# Altium schematic symbol library LMG3100R017.SchLib: 1 symbol
Pins are listed as number, name and electrical type; pins without a type are passive.

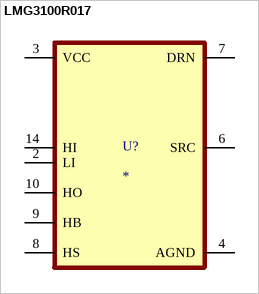
[diagram p0: symbol LMG3100R017]

## LMG3100R017
designator U?
footprint LMG3100R017
pins: 2 LI, 3 VCC, 4 AGND, 6 SRC, 7 DRN, 8 HS, 9 HB, 10 HO, 14 HI